# EAGLE library part 74*541 (library 74xx)
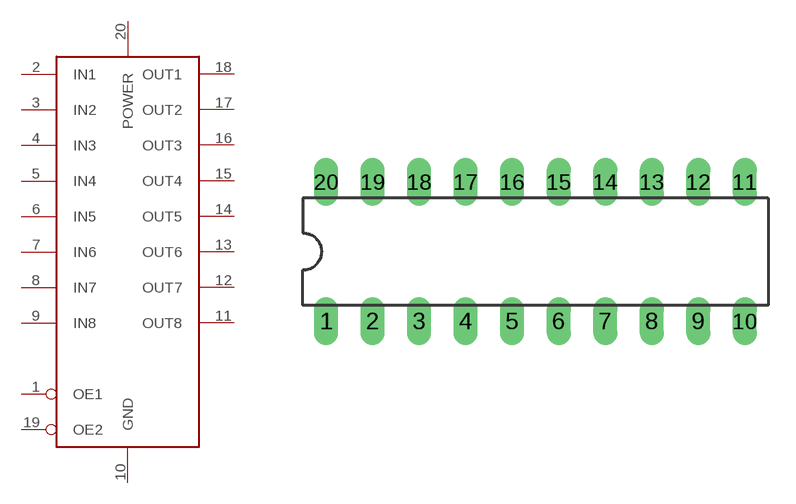
[diagram p0: symbol with the pads of DIL20; footprint DIL20]

Designator prefix -

## 74541  [DIL20]
1  OE1  oc
2  IN1  in
3  IN2  in
4  IN3  in
5  IN4  in
6  IN5  in
7  IN6  in
8  IN7  in
9  IN8  in
10  GND  sup
11  OUT8  out
12  OUT7  out
13  OUT6  out
14  OUT5  out
15  OUT4  out
16  OUT3  out
17  OUT2  out
18  OUT1  out
19  OE2  oc
20  POWER  sup

## Footprint DIL20 (pad centres in mm)
Dual In Line Package
drill 0.813 long: 1 -11.43,-3.81; 2 -8.89,-3.81; 3 -6.35,-3.81; 4 -3.81,-3.81; 5 -1.27,-3.81; 6 1.27,-3.81; 7 3.81,-3.81; 8 6.35,-3.81; 9 8.89,-3.81; 10 11.43,-3.81; 11 11.43,3.81; 12 8.89,3.81; 13 6.35,3.81; 14 3.81,3.81; 15 1.27,3.81; 16 -1.27,3.81; 17 -3.81,3.81; 18 -6.35,3.81; 19 -8.89,3.81; 20 -11.43,3.81